# Altium schematic symbol library Utility.SchLib: 1 symbol
Pins are listed as number, name and electrical type; pins without a type are passive.

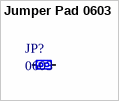
[diagram p0: symbol Jumper Pad 0603]

## Jumper Pad 0603
designator JP?, comment 0603  (no BOM)
Jumper pads, 0603, no-BOM
footprint pads_0603 (0603 Blank pads, no-BOM)
pins: 1, 2